# Altium schematic symbol library Micrel.SchLib: 1 symbol
Pins are listed as number, name and electrical type; pins without a type are passive.

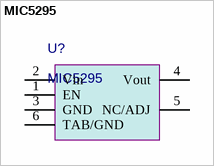
[diagram p0: symbol MIC5295]

## MIC5295
designator U?
Value: MIC5295
pins: 1 EN, 2 Vin, 3 GND, 4 Vout, 5 NC/ADJ, 6 TAB/GND